# Altium footprint library STM32WLE5CCU7.PcbLib: 3 footprints
Each footprint in its own frame and in the unit in brackets; x right, y up, seen from the top. Pads: shape width x height; smd on the part's side, far side on the other; paste and mask are expansions set on the pad; w line width, h text height; cw(c..) or ccw(c..) is an arc to the next point about the centre after c.
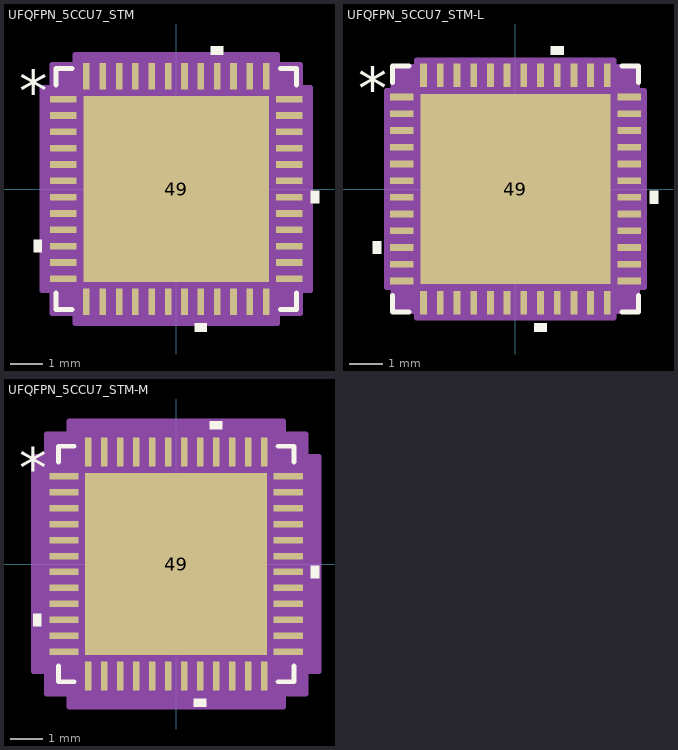
[diagram p0: the footprints below, top view; thin cyan lines are the x and y axes]

## UFQFPN_5CCU7_STM [mil]
pads (49):
  rect 32x8 smd paste+0 mask+0: 1(-136,108.3) 2(-136,88.61) 3(-136,68.92) 4(-136,49.23) 5(-136,29.54) 6(-136,9.85) 7(-136,-9.85) 8(-136,-29.54) 9(-136,-49.23) 10(-136,-68.92) 11(-136,-88.61) 12(-136,-108.3) 25(136,-108.3) 26(136,-88.61) 27(136,-68.92) 28(136,-49.23) 29(136,-29.54) 30(136,-9.85) 31(136,9.85) 32(136,29.54) 33(136,49.23) 34(136,68.92) 35(136,88.61) 36(136,108.3)
  rect 8x32 smd paste+0 mask+0: 13(-108.3,-136) 14(-88.61,-136) 15(-68.92,-136) 16(-49.23,-136) 17(-29.54,-136) 18(-9.85,-136) 19(9.85,-136) 20(29.54,-136) 21(49.23,-136) 22(68.92,-136) 23(88.61,-136) 24(108.3,-136) 37(108.3,136) 38(88.61,136) 39(68.92,136) 40(49.23,136) 41(29.54,136) 42(9.85,136) 43(-9.85,136) 44(-29.54,136) 45(-49.23,136) 46(-68.92,136) 47(-88.61,136) 48(-108.3,136)
  rect 224x224 smd paste-111.5 mask+0: 49(0,0)
Top Overlay:
  region: -162,-61.41 -172,-61.41 -172,-76.42 -162,-76.42
  region: 37.03,-162 22.04,-162 22.04,-172 37.03,-172
  region: 162,-2.35 172,-2.35 172,-17.34 162,-17.34
  region: 56.73,162 41.73,162 41.73,172 56.73,172
  lines w6: -145,-125.39 -145,-145 -125.39,-145 ; -145,125.39 -145,145 -125.39,145 ; 125.39,-145 145,-145 145,-125.39 ; 125.39,145 145,145 145,125.39
  text "*" at -189.5,93.14 h50
Top Paste:
  region: -59.94,108.06 -108.06,108.06 -108.06,59.94 -59.94,59.94
  region: -59.94,52.06 -108.06,52.06 -108.06,3.94 -59.94,3.94
  region: -59.94,-3.94 -108.06,-3.94 -108.06,-52.06 -59.94,-52.06
  region: -59.94,-59.94 -108.06,-59.94 -108.06,-108.06 -59.94,-108.06
  region: -3.94,108.06 -52.06,108.06 -52.06,59.94 -3.94,59.94
  region: -3.94,52.06 -52.06,52.06 -52.06,3.94 -3.94,3.94
  region: -3.94,-3.94 -52.06,-3.94 -52.06,-52.06 -3.94,-52.06
  region: -3.94,-59.94 -52.06,-59.94 -52.06,-108.06 -3.94,-108.06
  region: 52.06,108.06 3.94,108.06 3.94,59.94 52.06,59.94
  region: 52.06,52.06 3.94,52.06 3.94,3.94 52.06,3.94
  region: 52.06,-3.94 3.94,-3.94 3.94,-52.06 52.06,-52.06
  region: 52.06,-59.94 3.94,-59.94 3.94,-108.06 52.06,-108.06
  region: 108.06,108.06 59.94,108.06 59.94,59.94 108.06,59.94
  region: 108.06,52.06 59.94,52.06 59.94,3.94 108.06,3.94
  region: 108.06,-3.94 59.94,-3.94 59.94,-52.06 108.06,-52.06
  region: 108.06,-59.94 59.94,-59.94 59.94,-108.06 108.06,-108.06
Mechanical 13:
  drawing of 201 lines, arcs and shapes, not listed
  text "*" at -132.5,93.14 h50
Mechanical 15:
  region: -122.3,-150 -150,-150 -150,-122.3 -162,-122.3 -162,122.3 -150,122.3 -150,150 -122.3,150 -122.3,162 122.3,162 122.3,150 150,150 150,122.3 162,122.3 162,-122.3 150,-122.3 150,-150 122.3,-150 122.3,-162 -122.3,-162
  lines w6: -162,-122.3 -150,-122.3 -150,-150 -122.3,-150 -122.3,-162 122.3,-162 122.3,-150 150,-150 150,-122.3 162,-122.3 162,122.3 150,122.3 150,150 122.3,150 122.3,162 -122.3,162 -122.3,150 -150,150 -150,122.3 -162,122.3 -162,-122.3
3D body "UFQFPN_5CCU7_STM.step": height 24.09, standoff 0, extent -140,-140 140,140

## UFQFPN_5CCU7_STM-L [mil]
pads (49):
  rect 28x8 smd paste+0 mask+0: 1(-134,108.3) 2(-134,88.61) 3(-134,68.92) 4(-134,49.23) 5(-134,29.54) 6(-134,9.85) 7(-134,-9.85) 8(-134,-29.54) 9(-134,-49.23) 10(-134,-68.92) 11(-134,-88.61) 12(-134,-108.3) 25(134,-108.3) 26(134,-88.61) 27(134,-68.92) 28(134,-49.23) 29(134,-29.54) 30(134,-9.85) 31(134,9.85) 32(134,29.54) 33(134,49.23) 34(134,68.92) 35(134,88.61) 36(134,108.3)
  rect 8x28 smd paste+0 mask+0: 13(-108.3,-134) 14(-88.61,-134) 15(-68.92,-134) 16(-49.23,-134) 17(-29.54,-134) 18(-9.85,-134) 19(9.85,-134) 20(29.54,-134) 21(49.23,-134) 22(68.92,-134) 23(88.61,-134) 24(108.3,-134) 37(108.3,134) 38(88.61,134) 39(68.92,134) 40(49.23,134) 41(29.54,134) 42(9.85,134) 43(-9.85,134) 44(-29.54,134) 45(-49.23,134) 46(-68.92,134) 47(-88.61,134) 48(-108.3,134)
  rect 224x224 smd paste-111.5 mask+0: 49(0,0)
Top Overlay:
  region: -158,-61.41 -168,-61.41 -168,-76.42 -158,-76.42
  region: 37.03,-158 22.04,-158 22.04,-168 37.03,-168
  region: 158,-2.35 168,-2.35 168,-17.34 158,-17.34
  region: 56.73,158 41.73,158 41.73,168 56.73,168
  lines w6: -145,-125.39 -145,-145 -125.39,-145 ; -145,125.39 -145,145 -125.39,145 ; 125.39,-145 145,-145 145,-125.39 ; 125.39,145 145,145 145,125.39
  text "*" at -185.5,93.14 h50
Top Paste:
  region: -59.94,108.06 -108.06,108.06 -108.06,59.94 -59.94,59.94
  region: -59.94,52.06 -108.06,52.06 -108.06,3.94 -59.94,3.94
  region: -59.94,-3.94 -108.06,-3.94 -108.06,-52.06 -59.94,-52.06
  region: -59.94,-59.94 -108.06,-59.94 -108.06,-108.06 -59.94,-108.06
  region: -3.94,108.06 -52.06,108.06 -52.06,59.94 -3.94,59.94
  region: -3.94,52.06 -52.06,52.06 -52.06,3.94 -3.94,3.94
  region: -3.94,-3.94 -52.06,-3.94 -52.06,-52.06 -3.94,-52.06
  region: -3.94,-59.94 -52.06,-59.94 -52.06,-108.06 -3.94,-108.06
  region: 52.06,108.06 3.94,108.06 3.94,59.94 52.06,59.94
  region: 52.06,52.06 3.94,52.06 3.94,3.94 52.06,3.94
  region: 52.06,-3.94 3.94,-3.94 3.94,-52.06 52.06,-52.06
  region: 52.06,-59.94 3.94,-59.94 3.94,-108.06 52.06,-108.06
  region: 108.06,108.06 59.94,108.06 59.94,59.94 108.06,59.94
  region: 108.06,52.06 59.94,52.06 59.94,3.94 108.06,3.94
  region: 108.06,-3.94 59.94,-3.94 59.94,-52.06 108.06,-52.06
  region: 108.06,-59.94 59.94,-59.94 59.94,-108.06 108.06,-108.06
Mechanical 13:
  drawing of 201 lines, arcs and shapes, not listed
  text "*" at -132.5,93.14 h50
Mechanical 15:
  region: -116.3,-144 -144,-144 -144,-116.3 -152,-116.3 -152,116.3 -144,116.3 -144,144 -116.3,144 -116.3,152 116.3,152 116.3,144 144,144 144,116.3 152,116.3 152,-116.3 144,-116.3 144,-144 116.3,-144 116.3,-152 -116.3,-152
  lines w6: -152,-116.3 -144,-116.3 -144,-144 -116.3,-144 -116.3,-152 116.3,-152 116.3,-144 144,-144 144,-116.3 152,-116.3 152,116.3 144,116.3 144,144 116.3,144 116.3,152 -116.3,152 -116.3,144 -144,144 -144,116.3 -152,116.3 -152,-116.3
3D body "UFQFPN_5CCU7_STM.step": height 24.09, standoff 0, extent -140,-140 140,140

## UFQFPN_5CCU7_STM-M [mil]
pads (49):
  rect 36x8 smd paste+0 mask+0: 1(-138,108.3) 2(-138,88.61) 3(-138,68.92) 4(-138,49.23) 5(-138,29.54) 6(-138,9.85) 7(-138,-9.85) 8(-138,-29.54) 9(-138,-49.23) 10(-138,-68.92) 11(-138,-88.61) 12(-138,-108.3) 25(138,-108.3) 26(138,-88.61) 27(138,-68.92) 28(138,-49.23) 29(138,-29.54) 30(138,-9.85) 31(138,9.85) 32(138,29.54) 33(138,49.23) 34(138,68.92) 35(138,88.61) 36(138,108.3)
  rect 8x36 smd paste+0 mask+0: 13(-108.3,-138) 14(-88.61,-138) 15(-68.92,-138) 16(-49.23,-138) 17(-29.54,-138) 18(-9.85,-138) 19(9.85,-138) 20(29.54,-138) 21(49.23,-138) 22(68.92,-138) 23(88.61,-138) 24(108.3,-138) 37(108.3,138) 38(88.61,138) 39(68.92,138) 40(49.23,138) 41(29.54,138) 42(9.85,138) 43(-9.85,138) 44(-29.54,138) 45(-49.23,138) 46(-68.92,138) 47(-88.61,138) 48(-108.3,138)
  rect 224x224 smd paste-111.5 mask+0: 49(0,0)
Top Overlay:
  region: -166,-61.41 -176,-61.41 -176,-76.42 -166,-76.42
  region: 37.03,-166 22.04,-166 22.04,-176 37.03,-176
  region: 166,-2.35 176,-2.35 176,-17.34 166,-17.34
  region: 56.73,166 41.73,166 41.73,176 56.73,176
  lines w6: -145,-125.39 -145,-145 -125.39,-145 ; -145,125.39 -145,145 -125.39,145 ; 125.39,-145 145,-145 145,-125.39 ; 125.39,145 145,145 145,125.39
  text "*" at -193.5,93.14 h50
Top Paste:
  region: -59.94,108.06 -108.06,108.06 -108.06,59.94 -59.94,59.94
  region: -59.94,52.06 -108.06,52.06 -108.06,3.94 -59.94,3.94
  region: -59.94,-3.94 -108.06,-3.94 -108.06,-52.06 -59.94,-52.06
  region: -59.94,-59.94 -108.06,-59.94 -108.06,-108.06 -59.94,-108.06
  region: -3.94,108.06 -52.06,108.06 -52.06,59.94 -3.94,59.94
  region: -3.94,52.06 -52.06,52.06 -52.06,3.94 -3.94,3.94
  region: -3.94,-3.94 -52.06,-3.94 -52.06,-52.06 -3.94,-52.06
  region: -3.94,-59.94 -52.06,-59.94 -52.06,-108.06 -3.94,-108.06
  region: 52.06,108.06 3.94,108.06 3.94,59.94 52.06,59.94
  region: 52.06,52.06 3.94,52.06 3.94,3.94 52.06,3.94
  region: 52.06,-3.94 3.94,-3.94 3.94,-52.06 52.06,-52.06
  region: 52.06,-59.94 3.94,-59.94 3.94,-108.06 52.06,-108.06
  region: 108.06,108.06 59.94,108.06 59.94,59.94 108.06,59.94
  region: 108.06,52.06 59.94,52.06 59.94,3.94 108.06,3.94
  region: 108.06,-3.94 59.94,-3.94 59.94,-52.06 108.06,-52.06
  region: 108.06,-59.94 59.94,-59.94 59.94,-108.06 108.06,-108.06
Mechanical 13:
  drawing of 201 lines, arcs and shapes, not listed
  text "*" at -132.5,93.14 h50
Mechanical 15:
  region: -132.29,-160 -160,-160 -160,-132.29 -176,-132.29 -176,132.29 -160,132.29 -160,160 -132.29,160 -132.29,176 132.29,176 132.29,160 160,160 160,132.29 176,132.29 176,-132.29 160,-132.29 160,-160 132.29,-160 132.29,-176 -132.29,-176
  lines w6: -176,-132.29 -160,-132.29 -160,-160 -132.29,-160 -132.29,-176 132.29,-176 132.29,-160 160,-160 160,-132.29 176,-132.29 176,132.29 160,132.29 160,160 132.29,160 132.29,176 -132.29,176 -132.29,160 -160,160 -160,132.29 -176,132.29 -176,-132.29
3D body "UFQFPN_5CCU7_STM.step": height 24.09, standoff 0, extent -140,-140 140,140